# Altium footprint library 120266_FFC_FPC.PcbLib: 13 footprints
Each footprint in its own frame and in the unit in brackets; x right, y up, seen from the top. Pads: shape width x height; smd on the part's side, far side on the other; paste and mask are expansions set on the pad; w line width, h text height; cw(c..) or ccw(c..) is an arc to the next point about the centre after c.
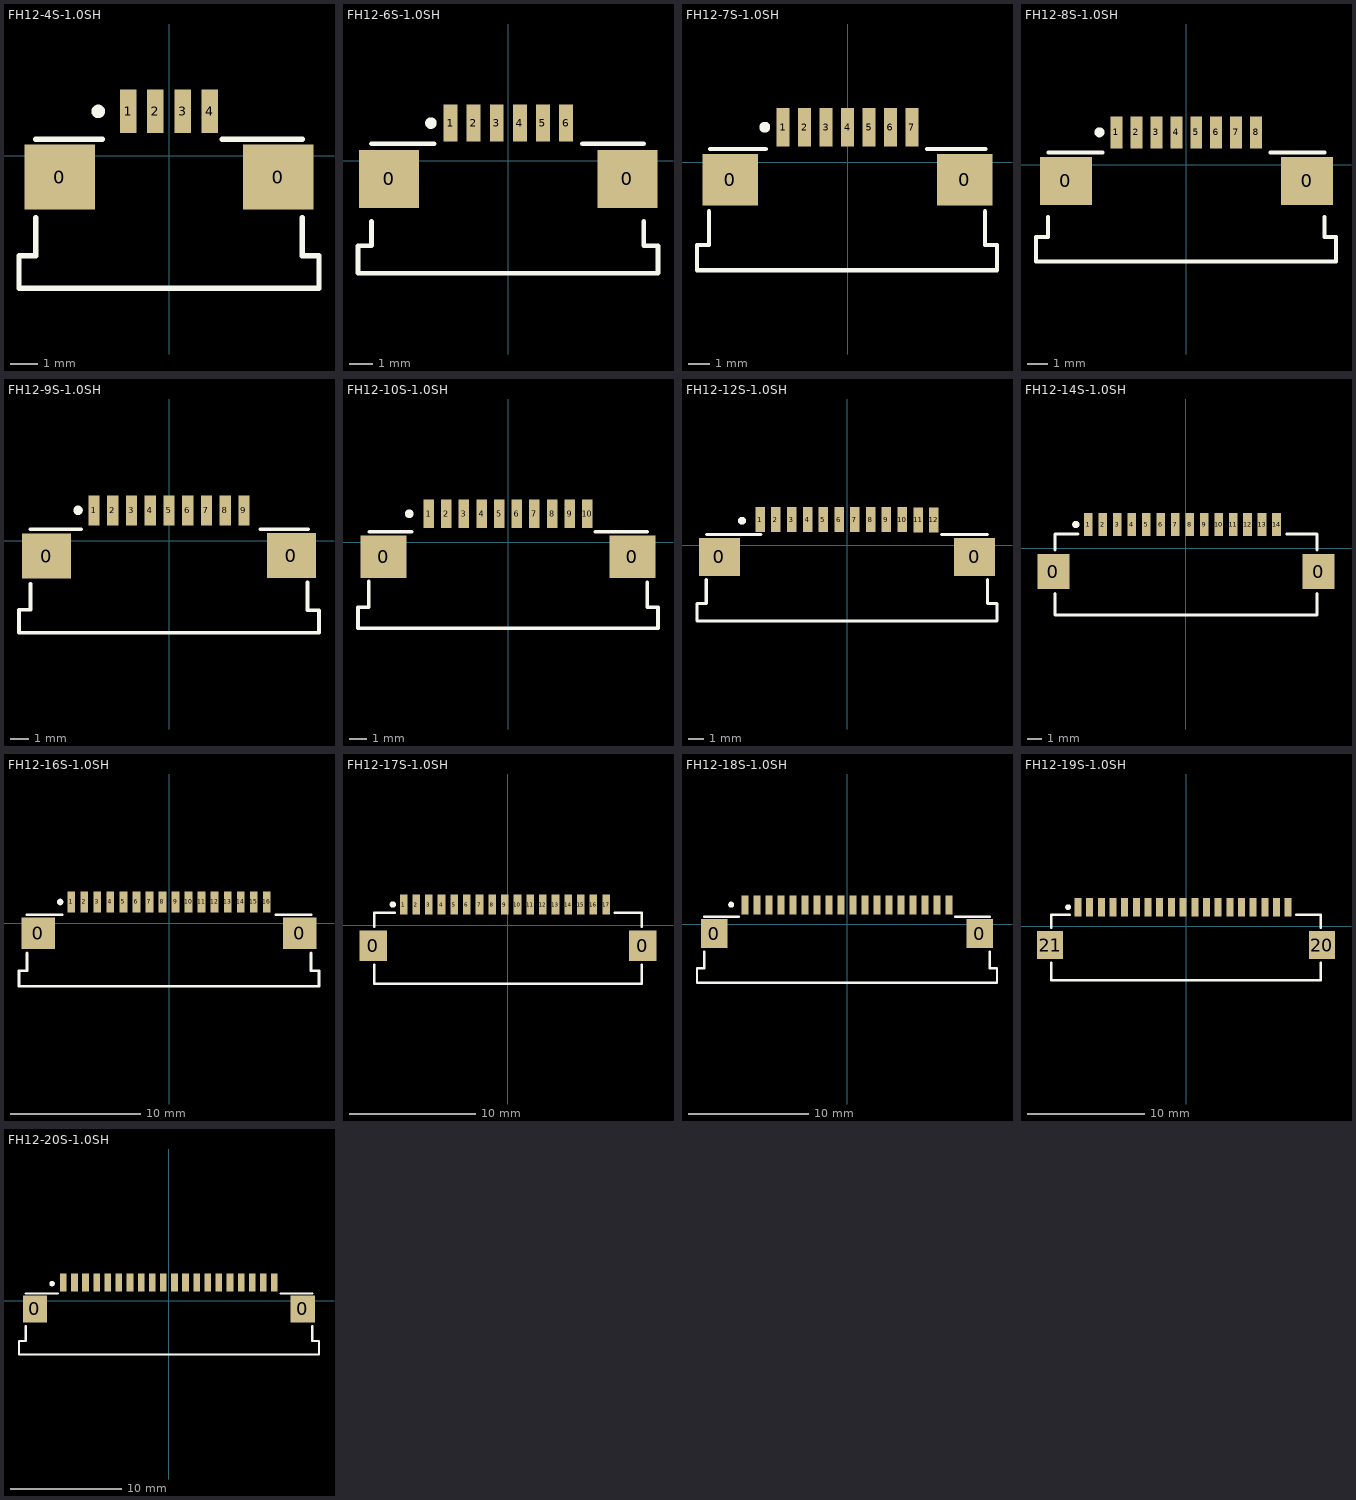
[diagram p0: the footprints below, top view; thin cyan lines are the x and y axes]

## FH12-4S-1.0SH [mm] "Connector; FH12 Series; 4 Position; 1.0mm Spaced Bottom Eccentric Contact"
height 2
pads (6):
  rect 2.6x2.4 smd: 0(-4.013,-0.787) 0(4.013,-0.787)
  rect 0.6x1.6 smd: 1(-1.5,1.625) 2(-0.5,1.625) 3(0.5,1.625) 4(1.5,1.625)
Top Overlay:
  circle w0.25: c-2.6,1.625 r0.125
  lines w0.2: -4.902,-2.286 -4.902,-3.683 -5.512,-3.683 -5.512,-4.877 5.512,-4.877 5.512,-3.683 4.902,-3.683 4.902,-2.286 ; -4.902,0.61 -2.45,0.61 ; 1.95,0.61 4.902,0.61
3D body: height 2.8, standoff 0, extent -5.5,-4.89 5.5,1.91

## FH12-6S-1.0SH [mm] "Connector; FH12 Series; 6 Position; 1.0mm Spaced Bottom Eccentric Contact"
height 2
pads (8):
  rect 2.6x2.5 smd: 0(-5.156,-0.787) 0(5.156,-0.787)
  rect 0.6x1.6 smd: 1(-2.5,1.625) 2(-1.5,1.625) 3(-0.5,1.625) 4(0.5,1.625) 5(1.5,1.625) 6(2.5,1.625)
Top Overlay:
  circle w0.25: c-3.346,1.625 r0.125
  lines w0.2: -5.918,-2.616 -5.918,-3.683 -6.502,-3.683 -6.502,-4.877 6.477,-4.877 6.477,-3.683 5.867,-3.683 5.867,-2.616 ; -5.918,0.737 -3.196,0.737 ; 3.204,0.737 5.867,0.737
3D body: height 2.8, standoff 0, extent -6.5,-4.895 6.5,1.905

## FH12-7S-1.0SH [mm] "Connector; FH12 Series; 7 Position; 1.0mm Spaced Bottom Standard Contact"
height 2
pads (9):
  rect 2.6x2.4 smd: 0(-5.461,-0.813) 0(5.461,-0.813)
  rect 0.6x1.8 smd: 1(-3,1.625) 2(-2,1.625) 3(-1,1.625) 4(0,1.625) 5(1,1.625) 6(2,1.625) 7(3,1.625)
Top Overlay:
  circle w0.25: c-3.85,1.625 r0.125
  lines w0.2: -6.452,-2.286 -6.452,-3.861 -7.01,-3.861 -7.01,-5.029 6.96,-5.029 6.96,-3.861 6.401,-3.861 6.401,-2.286 ; -6.401,0.61 -3.81,0.61 ; 3.7,0.61 6.426,0.61
3D body: height 2.8, standoff 0, extent -6.985,-4.895 7.015,1.905

## FH12-8S-1.0SH [mm] "Connector; FH12 Series; 8 Position; 1.0mm Spaced Bottom Eccentric Contact"
height 2
pads (10):
  rect 2.6x2.4 smd: 0(-6.02,-0.813) 0(6.045,-0.813)
  rect 0.6x1.6 smd: 1(-3.5,1.625) 2(-2.5,1.625) 3(-1.5,1.625) 4(-0.5,1.625) 5(0.5,1.625) 6(1.5,1.625) 7(2.5,1.625) 8(3.5,1.625)
Top Overlay:
  circle w0.25: c-4.346,1.625 r0.125
  lines w0.2: -6.909,-2.616 -6.909,-3.607 -7.518,-3.607 -7.518,-4.851 7.493,-4.851 7.493,-3.607 6.909,-3.607 6.909,-2.616 ; -6.904,0.61 -4.191,0.61 ; 4.216,0.61 6.921,0.61
3D body: height 2.8, standoff 0, extent -7.493,-4.895 7.507,1.905

## FH12-9S-1.0SH [mm] "Connector; FH12 Series; 9 Position; 1.0mm Spaced Bottom Standard Contact"
height 2
pads (11):
  rect 2.6x2.4 smd: 0(-6.528,-0.813) 0(6.528,-0.787)
  rect 0.6x1.6 smd: 1(-4,1.625) 2(-3,1.625) 3(-2,1.625) 4(-1,1.625) 5(0,1.625) 6(1,1.625) 7(2,1.625) 8(3,1.625) 9(4,1.625)
Top Overlay:
  circle w0.25: c-4.85,1.625 r0.125
  lines w0.2: -7.391,-2.286 -7.391,-3.683 -8.001,-3.683 -8.001,-4.902 8.001,-4.902 8.001,-3.708 7.391,-3.708 7.391,-2.21 ; -7.391,0.61 -4.7,0.61 ; 4.877,0.61 7.417,0.61
3D body: height 2.8, standoff 0, extent -8,-4.89 8,1.91

## FH12-10S-1.0SH [mm] "Connector; FH12 Series; 10 Position; 1.0mm Spaced Bottom Eccentric Contact"
height 2
pads (12):
  rect 2.6x2.4 smd: 0(-7.061,-0.813) 0(7.061,-0.813)
  rect 0.6x1.6 smd: 1(-4.5,1.625) 2(-3.5,1.625) 3(-2.5,1.625) 4(-1.5,1.625) 5(-0.5,1.625) 6(0.5,1.625) 7(1.5,1.625) 8(2.5,1.625) 9(3.5,1.625) 10(4.5,1.625)
Top Overlay:
  circle w0.25: c-5.6,1.625 r0.125
  lines w0.2: -7.899,-2.21 -7.899,-3.683 -8.509,-3.683 -8.509,-4.877 8.509,-4.877 8.509,-3.683 7.899,-3.683 7.899,-2.261 ; -7.874,0.61 -5.45,0.61 ; 4.95,0.61 7.899,0.61
3D body: height 2.8, standoff 0, extent -8.5,-4.89 8.5,1.91

## FH12-12S-1.0SH [mm] "Connector; FH12 Series; 10 Position; 1.0mm Spaced Bottom Eccentric Contact"
height 2
pads (14):
  rect 2.6x2.4 smd: 0(-8.077,-0.737) 0(8.077,-0.737)
  rect 0.6x1.6 smd: 1(-5.5,1.625) 2(-4.5,1.625) 3(-3.5,1.625) 4(-2.5,1.625) 5(-1.5,1.625) 6(-0.5,1.625) 7(0.5,1.625) 8(1.5,1.625) 9(2.5,1.625) 10(3.5,1.625) 11(4.5,1.6) 12(5.5,1.6)
Top Overlay:
  circle w0.25: c-6.655,1.549 r0.125
  lines w0.2: -8.915,-2.159 -8.915,-3.683 -9.5,-3.683 -9.5,-4.801 9.5,-4.801 9.5,-3.683 8.89,-3.683 8.89,-2.159 ; -8.89,0.686 -5.45,0.686 ; 6,0.686 8.89,0.686
3D body: height 2.8, standoff 0, extent -9.5,-4.89 9.5,1.91

## FH12-14S-1.0SH [mm] "Connector; FH12 Series; 14 Position; 1.0mm Spaced Bottom Eccentric Contact"
height 2
pads (16):
  rect 2.2x2.4 smd: 0(-9.15,-1.625) 0(9.15,-1.625)
  rect 0.6x1.6 smd: 1(-6.75,1.625) 2(-5.75,1.625) 3(-4.75,1.625) 4(-3.75,1.625) 5(-2.75,1.625) 6(-1.75,1.625) 7(-0.75,1.625) 8(0.25,1.625) 9(1.25,1.625) 10(2.25,1.625) 11(3.25,1.625) 12(4.25,1.625) 13(5.25,1.625) 14(6.25,1.625)
Top Overlay:
  circle w0.25: c-7.6,1.625 r0.125
  lines w0.2: -9.05,-3.125 -9.05,-4.625 9.05,-4.625 9.05,-3.125 ; -9.05,-0.125 -9.05,0.975 -7.45,0.975 ; 6.95,0.975 9.05,0.975 9.05,-0.125

## FH12-16S-1.0SH [mm] "Connector; FH12 Series; 16 Position; 1.0mm Spaced Bottom Standard Contact"
height 2
pads (18):
  rect 2.6x2.4 smd: 0(-10.033,-0.762) 0(10.033,-0.762)
  rect 0.6x1.6 smd: 1(-7.5,1.625) 2(-6.5,1.625) 3(-5.5,1.625) 4(-4.5,1.625) 5(-3.5,1.625) 6(-2.5,1.625) 7(-1.5,1.625) 8(-0.5,1.625) 9(0.5,1.625) 10(1.5,1.625) 11(2.5,1.625) 12(3.5,1.625) 13(4.5,1.625) 14(5.5,1.625) 15(6.5,1.625) 16(7.5,1.625)
Top Overlay:
  circle w0.25: c-8.35,1.625 r0.125
  lines w0.2: -10.897,-2.286 -10.897,-3.652 -11.506,-3.652 -11.506,-4.851 11.506,-4.851 11.506,-3.652 10.897,-3.652 10.897,-2.286 ; -10.897,0.635 -8.2,0.635 ; 8.2,0.635 10.897,0.635
3D body: height 2.8, standoff 0, extent -11.557,-4.895 11.443,1.905

## FH12-17S-1.0SH [mm] "Connector; FH12 Series; 17 Position; 1.0mm Spaced Bottom Eccentric Contact"
height 2
pads (19):
  rect 2.2x2.4 smd: 0(-10.65,-1.625) 0(10.65,-1.625)
  rect 0.6x1.6 smd: 1(-8.25,1.625) 2(-7.25,1.625) 3(-6.25,1.625) 4(-5.25,1.625) 5(-4.25,1.625) 6(-3.25,1.625) 7(-2.25,1.625) 8(-1.25,1.625) 9(-0.25,1.625) 10(0.75,1.625) 11(1.75,1.625) 12(2.75,1.625) 13(3.75,1.625) 14(4.75,1.625) 15(5.75,1.625) 16(6.75,1.625) 17(7.75,1.625)
Top Overlay:
  circle w0.25: c-9.1,1.625 r0.125
  lines w0.2: -10.55,-3.125 -10.55,-4.625 10.55,-4.625 10.55,-3.125 ; -10.55,-0.125 -10.55,0.975 -8.95,0.975 ; 8.45,0.975 10.55,0.975 10.55,-0.125

## FH12-18S-1.0SH [mm] "Connector; FH12 Series; 18 Position; 1.0mm Spaced Bottom Standard Contact"
height 2
pads (20):
  rect 2.2x2.4 smd: 0(-11.049,-0.762) 0(11.049,-0.762)
  rect 0.6x1.6 smd: 1(-8.5,1.625) 2(-7.5,1.625) 3(-6.5,1.625) 4(-5.5,1.625) 5(-4.5,1.625) 6(-3.5,1.625) 7(-2.5,1.625) 8(-1.5,1.625) 9(-0.5,1.625) 10(0.5,1.625) 11(1.5,1.625) 12(2.5,1.625) 13(3.5,1.625) 14(4.5,1.625) 15(5.5,1.625) 16(6.5,1.625) 17(7.5,1.625) 18(8.5,1.625)
Top Overlay:
  circle w0.25: c-9.652,1.651 r0.125
  lines w0.2: -12.5,-4.851 12.5,-4.851 12.5,-3.655 11.89,-3.655 11.89,-2.29 ; -12.501,-4.85 -12.501,-3.651 -11.892,-3.651 -11.892,-2.285 ; -11.9,0.635 -9,0.635 ; 9,0.635 11.9,0.635
3D body: height 2.8, standoff 0, extent -12.5,-4.865 12.5,1.935

## FH12-19S-1.0SH [mm] "Connector; FH12 Series; 19 Position; 1.0mm Spaced Bottom Eccentric Contact"
height 2
pads (21):
  rect 0.6x1.6 smd: 1(-9.25,1.625) 2(-8.25,1.625) 3(-7.25,1.625) 4(-6.25,1.625) 5(-5.25,1.625) 6(-4.25,1.625) 7(-3.25,1.625) 8(-2.25,1.625) 9(-1.25,1.625) 10(-0.25,1.625) 11(0.75,1.625) 12(1.75,1.625) 13(2.75,1.625) 14(3.75,1.625) 15(4.75,1.625) 16(5.75,1.625) 17(6.75,1.625) 18(7.75,1.625) 19(8.75,1.625)
  rect 2.2x2.4 smd: 20(11.65,-1.625) 21(-11.65,-1.625)
Top Overlay:
  circle w0.25: c-10.1,1.625 r0.125
  lines w0.2: -11.55,-3.125 -11.55,-4.625 11.55,-4.625 11.55,-3.125 ; -11.55,-0.125 -11.55,0.975 -9.95,0.975 ; 9.45,0.975 11.55,0.975 11.55,-0.125

## FH12-20S-1.0SH [mm] "Connector; FH12 Series; 20 Position; 1.0mm Spaced Bottom Standard Contact"
height 2
pads (22):
  rect 2.2x2.4 smd: 0(-12.049,-0.762) 0(12.049,-0.762)
  rect 0.6x1.6 smd: 1(-9.5,1.625) 2(-8.5,1.625) 3(-7.5,1.625) 4(-6.5,1.625) 5(-5.5,1.625) 6(-4.5,1.625) 7(-3.5,1.625) 8(-2.5,1.625) 9(-1.5,1.625) 10(-0.5,1.625) 11(0.5,1.625) 12(1.5,1.625) 13(2.5,1.625) 14(3.5,1.625) 15(4.5,1.625) 16(5.5,1.625) 17(6.5,1.625) 18(7.5,1.625) 19(8.5,1.625) 20(9.5,1.625)
Top Overlay:
  circle w0.25: c-10.516,1.524 r0.125
  lines w0.2: -13.489,-4.85 -13.489,-3.651 -12.879,-3.651 -12.879,-2.285 ; -13.487,-4.851 13.513,-4.851 13.513,-3.655 12.903,-3.655 12.903,-2.29 ; -12.903,0.635 -10.003,0.635 ; 10.054,0.635 12.903,0.635
3D body: height 2.8, standoff 0, extent -13.5,-4.865 13.5,1.935